# Altium integrated library Capacitor.IntLib: 4 symbols
Pins are listed as number, name and electrical type; pins without a type are passive.

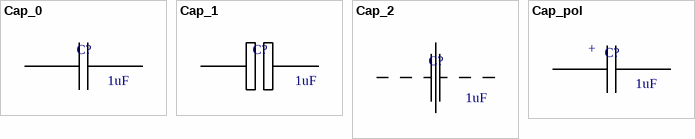
[diagram p0: symbols Cap_0 to Cap_pol]

## Cap_0
designator C?  value 1uF  (hidden comment: *)
footprint Cap_0402 (Chip Capacitor, 2-Leads, Body 1,00x0,50mm, IPC Medium Density)
footprint CAP_0603 (Chip Capacitor, 2-Leads, Body 1,60x0,80mm, IPC Medium Density)
footprint CAP_0805 (Chip Capacitor, 2-Leads, Body 2,00x1,25mm, IPC Medium Density)
footprint CAP_1206 (Chip Capacitor, 2-Leads, Body 3,20x1,60mm, IPC Medium Density)
footprint CAP_1210 (Chip Capacitor, 2-Leads, Body 3,20x2,50mm, IPC Medium Density)
footprint CAP_1218 (Chip Capacitor, 2-Leads, Body 3,20x4,50mm, IPC Medium Density)
footprint CAP_1806 (Chip Capacitor, 2-Leads, Body 4,50x1,60mm, IPC Medium Density)
footprint CAP_1808 (Chip Capacitor, 2-Leads, Body 4,50x2,00mm, IPC Medium Density)
footprint CAP_1812 (Chip Capacitor, 2-Leads, Body 4,50x3,20mm, IPC Medium Density)
footprint Cap_2010 (Chip Capacitor, 2-Leads, Body 5,00x2,50mm, IPC Medium Density)
footprint CAP_2220 (Chip Capacitor, 2-Leads, Body 5,70x5,00mm, IPC Medium Density)
footprint Cap_2225 (Chip Capacitor, 2-Leads, Body 5,70x6,30mm, IPC Medium Density)
footprint CAP_2512 (Chip Capacitor, 2-Leads, Body 6,40x3,20mm, IPC Medium Density)
footprint CAP_2824 (Chip Capacitor, 2-Leads, Body 7,10x6,10mm, IPC Medium Density)
footprint CAP_3225 (Chip Capacitor, 2-Leads, Body 8,00x6,30mm, IPC Medium Density)
footprint CAP_4030 (Chip Capacitor, 2-Leads, Body 10,20x7,60mm, IPC Medium Density)
footprint CAP_4032 (Chip Capacitor, 2-Leads, Body 10,20x8,00mm, IPC Medium Density)
footprint CAP_5040 (Chip Capacitor, 2-Leads, Body 12,70x10,20mm, IPC Medium Density)
footprint CAP_6054 (Chip Capacitor, 2-Leads, Body 15,20x13,70mm, IPC Medium Density)
footprint K10-17B
pins: 1, 2

## Cap_1
designator C?  value 1uF  (hidden comment: *)
footprint Cap_0402 (Chip Capacitor, 2-Leads, Body 1,00x0,50mm, IPC Medium Density)
footprint CAP_0603 (Chip Capacitor, 2-Leads, Body 1,60x0,80mm, IPC Medium Density)
footprint CAP_0805 (Chip Capacitor, 2-Leads, Body 2,00x1,25mm, IPC Medium Density)
footprint CAP_1206 (Chip Capacitor, 2-Leads, Body 3,20x1,60mm, IPC Medium Density)
footprint CAP_1210 (Chip Capacitor, 2-Leads, Body 3,20x2,50mm, IPC Medium Density)
footprint CAP_1218 (Chip Capacitor, 2-Leads, Body 3,20x4,50mm, IPC Medium Density)
footprint CAP_1806 (Chip Capacitor, 2-Leads, Body 4,50x1,60mm, IPC Medium Density)
footprint CAP_1808 (Chip Capacitor, 2-Leads, Body 4,50x2,00mm, IPC Medium Density)
footprint CAP_1812 (Chip Capacitor, 2-Leads, Body 4,50x3,20mm, IPC Medium Density)
footprint Cap_2010 (Chip Capacitor, 2-Leads, Body 5,00x2,50mm, IPC Medium Density)
footprint CAP_2220 (Chip Capacitor, 2-Leads, Body 5,70x5,00mm, IPC Medium Density)
footprint Cap_2225 (Chip Capacitor, 2-Leads, Body 5,70x6,30mm, IPC Medium Density)
footprint CAP_2512 (Chip Capacitor, 2-Leads, Body 6,40x3,20mm, IPC Medium Density)
footprint CAP_2824 (Chip Capacitor, 2-Leads, Body 7,10x6,10mm, IPC Medium Density)
footprint CAP_3225 (Chip Capacitor, 2-Leads, Body 8,00x6,30mm, IPC Medium Density)
footprint CAP_4030 (Chip Capacitor, 2-Leads, Body 10,20x7,60mm, IPC Medium Density)
footprint CAP_4032 (Chip Capacitor, 2-Leads, Body 10,20x8,00mm, IPC Medium Density)
footprint CAP_5040 (Chip Capacitor, 2-Leads, Body 12,70x10,20mm, IPC Medium Density)
footprint CAP_6054 (Chip Capacitor, 2-Leads, Body 15,20x13,70mm, IPC Medium Density)
pins: 1, 2

## Cap_2
designator C?  value 1uF  (hidden comment: *)
footprint Cap_0402 (Chip Capacitor, 2-Leads, Body 1,00x0,50mm, IPC Medium Density)
footprint CAP_0603 (Chip Capacitor, 2-Leads, Body 1,60x0,80mm, IPC Medium Density)
footprint CAP_0805 (Chip Capacitor, 2-Leads, Body 2,00x1,25mm, IPC Medium Density)
footprint CAP_1206 (Chip Capacitor, 2-Leads, Body 3,20x1,60mm, IPC Medium Density)
footprint CAP_1210 (Chip Capacitor, 2-Leads, Body 3,20x2,50mm, IPC Medium Density)
footprint CAP_1218 (Chip Capacitor, 2-Leads, Body 3,20x4,50mm, IPC Medium Density)
footprint CAP_1806 (Chip Capacitor, 2-Leads, Body 4,50x1,60mm, IPC Medium Density)
footprint CAP_1808 (Chip Capacitor, 2-Leads, Body 4,50x2,00mm, IPC Medium Density)
footprint CAP_1812 (Chip Capacitor, 2-Leads, Body 4,50x3,20mm, IPC Medium Density)
footprint Cap_2010 (Chip Capacitor, 2-Leads, Body 5,00x2,50mm, IPC Medium Density)
footprint CAP_2220 (Chip Capacitor, 2-Leads, Body 5,70x5,00mm, IPC Medium Density)
footprint Cap_2225 (Chip Capacitor, 2-Leads, Body 5,70x6,30mm, IPC Medium Density)
footprint CAP_2512 (Chip Capacitor, 2-Leads, Body 6,40x3,20mm, IPC Medium Density)
footprint CAP_2824 (Chip Capacitor, 2-Leads, Body 7,10x6,10mm, IPC Medium Density)
footprint CAP_3225 (Chip Capacitor, 2-Leads, Body 8,00x6,30mm, IPC Medium Density)
footprint CAP_4030 (Chip Capacitor, 2-Leads, Body 10,20x7,60mm, IPC Medium Density)
footprint CAP_4032 (Chip Capacitor, 2-Leads, Body 10,20x8,00mm, IPC Medium Density)
footprint CAP_5040 (Chip Capacitor, 2-Leads, Body 12,70x10,20mm, IPC Medium Density)
footprint CAP_6054 (Chip Capacitor, 2-Leads, Body 15,20x13,70mm, IPC Medium Density)
pins: 1, 2

## Cap_pol
designator C?  value 1uF  (hidden comment: *)
footprint K50-35(8x11)
footprint K50-35(16x35)
footprint K50-35(10x16)
footprint K50-35(13x20)
footprint K50-35(6.3x11)
footprint B41121(8x10)
pins: 1, 2
text: +